# Altium integrated library KMTI-main.IntLib: 34 symbols
Pins are listed as number, name and electrical type; pins without a type are passive.

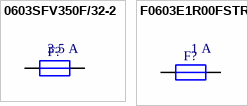
[diagram p0: symbols 0603SFV350F/32-2 to F0603E1R00FSTR]

## 0603SFV350F/32-2
designator F?  Current Rating: 3.5 A  (hidden comment: 0603SFV350F/32-2)
FUSE 0603 3.5A FAST; Manufacturer: TE Connectivity / Raychem; Description: Surface Mount Fuses 32V 3.5A GCERAM 0603; Voltage Rating DC: 32 VDC; Fuse Size / Group: 0603 (1608 metric); Fuse Type: Fast Blow; Interrupt Rating: 35 Amps; Supplier 1: Mouser; Manufacturer Part Number: 0603SFV350F/32-2; RoHS: RoHS Compliant; Category: Surface Mount Fuses; Stock 1: 16912; Pricing 1: 1=0.824, 10=0.621, 100=0.518, 250=0.505, 500=0.427, 1000=0.376, 2500=0.349, 6000=0.337, 12000=0.332 (EUR); Height: 0.51 mm; Length: 1.75 mm; Operating Temperature Range: - 55 C to + 125 C; Packaging: Reel; Product: Surface Mount Fuse; Series: SFV; Width: 0.48 mm; Brand: TE Connectivity / Raychem; Standard Pack Qty: 6000; RoHS - Mouser: Y; Minimum Order Quantity: 1; Reeling: True; ComponentLink1URL: http://www.mouser.com/ds/2/418/NG_CS_CLP00009_A_CLP00009-735180.pdf; ComponentLink1Description: http://www.mouser.com/ds/2/418/NG_CS_CLP00009_A_CLP00009-735180.pdf; Supplier Part Number 1: 650-0603SFV350F/32-2
footprint 0603R_0.45_L (Chip Resistor, 2-Leads, IPC Low Density)
footprint 0603R_0.45_M (Chip Resistor, 2-Leads, IPC Medium Density)
footprint 0603R_0.45_H (Chip Resistor, 2-Leads, IPC Hight Density)
pins: 1, 2

## F0603E1R00FSTR
designator F?  Current Rating: 1 A  (hidden comment: F0603E1R00FSTR)
FUSE 0603 1.0A FAST; Manufacturer: AVX; Description: Surface Mount Fuses 0603 1amp 0.13ohm SMD; Resistance: 0.13 Ohms; Voltage Rating DC: 32 VDC; Fuse Size / Group: 0603 (1608 metric); Fuse Type: Fast Blow; Interrupt Rating: 50 Amps; Supplier 1: Mouser; Manufacturer Part Number: F0603E1R00FSTR; RoHS: RoHS Compliant; Category: Surface Mount Fuses; Stock 1: 6505; Pricing 1: 1=0.256, 50=0.251, 100=0.208, 500=0.173, 1000=0.165, 3000=0.132, 6000=0.128, 9000=0.125 (EUR); Height: 0.63 mm; Length: 1.6 mm; Operating Temperature Range: - 55 C to + 125 C; Packaging: Reel; Product: Surface Mount Fuse; Series: F0603E; Width: 0.81 mm; Brand: AVX; Standard Pack Qty: 3000; Tradename: Accu-Guard II; RoHS - Mouser: Y; Minimum Order Quantity: 1; Reeling: True; ComponentLink1URL: http://www.mouser.com/ds/2/40/accug2-25369.pdf; ComponentLink1Description: http://www.mouser.com/ds/2/40/accug2-25369.pdf; Supplier Part Number 1: 581-F0603E1R00FSTR
footprint 0603R_0.45_L (Chip Resistor, 2-Leads, IPC Low Density)
footprint 0603R_0.45_M (Chip Resistor, 2-Leads, IPC Medium Density)
footprint 0603R_0.45_H (Chip Resistor, 2-Leads, IPC Hight Density)
pins: 1, 2


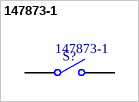
[diagram p1: symbol 147873-1]

## 147873-1
designator S?  Manufacturer Part Number: 147873-1  (hidden comment: *)
Pushbutton Switches SW TACT SMT J-LEAD 5.0MM; Manufacturer: TE Connectivity / Alcoswitch; Actuator: Rectangular; Contact Form: SPST; Current Rating: 50 mA; Illumination: None; Switch Function: OFF - (ON); Voltage Rating DC: 24 VDC; Cap Color: Brown; Life: 40000 Cycles; Supplier 1: Mouser; RoHS: RoHS Compliant; Category: Pushbutton Switches; Stock 1: 15926; Pricing 1: 1=0.302, 10=0.288, 25=0.259, 50=0.230, 100=0.220, 250=0.201, 500=0.192, 1000=0.158, 1800=0.145 (EUR); Contact Plating: Silver; Height: 5 mm; Material: Polyamide; Packaging: Reel; Termination Style: Solder Pin; Brand: TE Connectivity / Alcoswitch; Flammability Rating: UL 94 V-0; Mounting Style: SMD/SMT; Standard Pack Qty: 1800; RoHS - Mouser: Y; Minimum Order Quantity: 1; Reeling: True; ComponentLink1URL: http://www.mouser.com/ds/2/418/NG_CD_147873_K3-196492.pdf; ComponentLink1Description: http://www.mouser.com/ds/2/418/NG_CD_147873_K3-196492.pdf; Supplier Part Number 1: 506-147873-1
footprint 147873-1 (SPST TE Conectivity push button)
pins: 1 COMMON, 2 NO


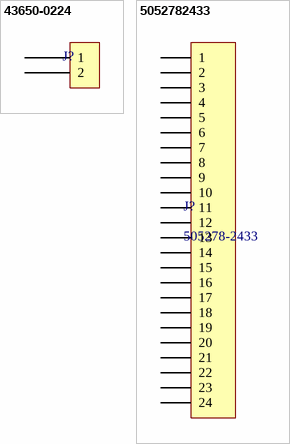
[diagram p2: symbols 43650-0224 to 5052782433]

## 43650-0224
designator J?  (value not drawn)
Headers & Wire Housings MICRO-FIT 3.0 HEADER; Manufacturer: Molex; Manufacturer Part Number: 43650-0224; Current Rating: 5 A; Mounting Angle: Vertical; Number of Positions: 2 Position; Voltage Rating: 600 V; Pitch: 3 mm; Qualification: Commercial; Supplier 1: Mouser; Supplier Part Number 1: 538-43650-0224; RoHS: RoHS Compliant; Category: Headers & Wire Housings; Stock 1: 1526; Pricing 1: 1=1.88, 10=1.69, 25=1.61, 100=1.46, 250=1.35, 500=1.15, 1000=1.07, 1800=1.02, 3600=0.999 (EUR); Accessory Type: -; Contact Plating: Tin; Contact Type: -; Housing Material: Liquid Crystal Polymer (LCP); Number of Rows: 1 Row; Packaging: Reel; Product: Headers; Series: 43650; Termination Style: SMD; Type: Power; Brand: Molex; Contact Material: Brass; Mounting Style: SMD; Row Spacing: -; Contact Gender: Pin (Male); Standard Pack Qty: 1800; Tradename: Micro-Fit 3.0; RoHS - Mouser: Y; Minimum Order Quantity: 1; Reeling: True; ComponentLink1URL: http://www.mouser.com/ds/2/276/0436500224_PCB_HEADERS-168469.pdf; ComponentLink1Description: http://www.mouser.com/ds/2/276/0436500224_PCB_HEADERS-168469.pdf
footprint 43650-0224
pins: 1, 2

## 5052782433
designator J?, comment 505278-2433
0.5 FFC ZIF BTM CONT EMBT PKG 24; Manufacturer: Molex, LLC; Manufacturer Part Number: 5052782433; Flat Flex Type: FFC, FPC; Connector/Contact Type: Contacts, Bottom; Number of Positions: 24; Pitch: 0.020" (0.50mm); FFC, FCB Thickness: 0.30mm; Locking Feature: Flip Lock; Cable End Type: Tabbed, Tapered; Actuator Material: Polyamide (PA), Nylon, Glass Filled; Voltage Rating: 50V; Material Flammability Rating: UL94 V-0; Current Rating: 0.5A; Supplier 1: Digi-Key; Supplier Part Number 1: 5052782433-ND; RoHS: RoHS Compliant; Category: Connectors, Interconnects; Stock 1: 0; Pricing 1: 3000=0.4308 (USD); Packaging: Tape & Reel (TR); Part Status: Active; Mounting Type: Surface Mount, Right Angle; Termination: Solder; Height Above Board: 0.075" (1.90mm); Contact Material: Phosphor Bronze; Contact Finish: Tin; Housing Material: Liquid Crystal Polymer (LCP), Glass Filled; Features: Solder Retention; Operating Temperature: -40°C ~ 85°C; ComponentLink1URL: http://www.molex.com/pdm_docs/sd/5052782433_sd.pdf; ComponentLink1Description: http://www.molex.com/pdm_docs/sd/5052782433_sd.pdf
footprint 505278-2433
pins: 1, 2, 3, 4, 5, 6, 7, 8, 9, 10, 11, 12, 13, 14, 15, 16, 17, 18, 19, 20, 21, 22, 23, 24


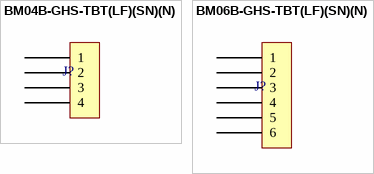
[diagram p3: symbols BM04B-GHS-TBT(LF)(SN)(N) to BM06B-GHS-TBT(LF)(SN)(N)]

## BM04B-GHS-TBT(LF)(SN)(N)
designator J?  (value not drawn)
CONN HEADER GH TOP 4POS 1.25MM; Manufacturer: JST Sales America Inc.; Manufacturer Part Number: BM04B-GHS-TBT(LF)(SN)(N); Connector Type: Header, Shrouded; Number of Positions: 4; Number of Positions Loaded: All; Pitch: 0.049" (1.25mm); Supplier 1: Digi-Key; Supplier Part Number 1: 455-1580-1-ND; RoHS: RoHS Compliant; Category: Connectors, Interconnects; Stock 1: 26095; Pricing 1: 1=0.44, 10=0.413, 100=0.3163, 500=0.27502, 1000=0.22689 (USD); Packaging: Cut Tape (CT); Contact Type: Outer Shroud Contact; Number of Rows: 1; Row Spacing: -; Contact Mating Length: -; Mounting Type: Surface Mount; Termination: Solder; Fastening Type: Locking Ramp; Features: Solder Retention; Contact Finish: Tin; Contact Finish Thickness: -; Color: Natural; ComponentLink1URL: http://www.jst-mfg.com/product/pdf/eng/eGH.pdf; ComponentLink1Description: http://www.jst-mfg.com/product/pdf/eng/eGH.pdf
footprint BM04B-GHS-TBT (Vertical)
pins: 1, 2, 3, 4

## BM06B-GHS-TBT(LF)(SN)(N)
designator J?
CONN HEADER GH TOP 6POS 1.25MM; Manufacturer: JST Sales America Inc.; Manufacturer Part Number: BM06B-GHS-TBT(LF)(SN)(N); Connector Type: Header, Shrouded; Number of Positions: 6; Number of Positions Loaded: All; Pitch: 0.049" (1.25mm); Supplier 1: Digi-Key; Supplier Part Number 1: 455-1582-1-ND; RoHS: RoHS Compliant; Category: Connectors, Interconnects; Stock 1: 150348; Pricing 1: 1=0.56, 10=0.524, 100=0.4019, 500=0.34948, 1000=0.28832 (USD); Packaging: Cut Tape (CT); Contact Type: Outer Shroud Contact; Number of Rows: 1; Row Spacing: -; Contact Mating Length: -; Mounting Type: Surface Mount; Termination: Solder; Fastening Type: Locking Ramp; Features: Solder Retention; Contact Finish: Tin; Contact Finish Thickness: -; Color: Natural; ComponentLink1URL: http://www.jst-mfg.com/product/pdf/eng/eGH.pdf; ComponentLink1Description: http://www.jst-mfg.com/product/pdf/eng/eGH.pdf
footprint BM06B-GHS-TBT (Vertical)
pins: 1, 2, 3, 4, 5, 6


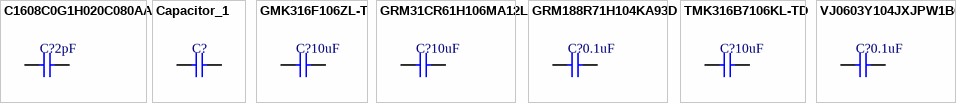
[diagram p4: symbols C1608C0G1H020C080AA to VJ0603Y104JXJPW1BC]

## C1608C0G1H020C080AA
designator C?  value 2pF  (hidden comment: *)
CAP CER 2pF 0603 50V C0G 12.5%; Manufacturer: TDK; Manufacturer Part Number: C1608C0G1H020C080AA; Description: Multilayer Ceramic Capacitors MLCC - SMD/SMT 0603 50volts 2.0pF C0G 0.25pF; Tolerance: 0.25 pF; Type: Commercial Grade MLCC; Voltage Rating DC: 50 VDC; Class: Class 1; Dielectric: C0G (NP0); Supplier 1: Mouser; Supplier Part Number 1: 810-C1608C0G1H020C; RoHS: RoHS Compliant; Category: Multilayer Ceramic Capacitors MLCC - SMD/SMT; Stock 1: 11697; Pricing 1: 1=0.262, 10=0.033, 100=0.023, 500=0.020, 1000=0.015, 4000=0.013, 8000=0.011, 24000=0.010, 48000=0.008 (EUR); Capacitance: 2 pF; Height: 0.8 mm; Length: 1.6 mm; Package/Case: 0603 (1608 metric); Packaging: Reel; Product: General Type MLCCs; Series: C; Termination Style: SMD/SMT; Width: 0.8 mm; Brand: TDK; Case Code - in: 0603; Case Code - mm: 1608; Maximum Operating Temperature: + 125 C; Minimum Operating Temperature: - 55 C; Standard Pack Qty: 4000; Termination: -; RoHS - Mouser: Y; Minimum Order Quantity: 1; Reeling: True; ComponentLink1URL: http://www.mouser.com/ds/2/400/lcc_commercial_general_en-837201.pdf; ComponentLink1Description: http://www.mouser.com/ds/2/400/lcc_commercial_general_en-837201.pdf
footprint 0603C_H (Chip Capacitor, 2-Leads, IPC Hight Density)
footprint 0603C_L (Chip Capacitor, 2-Leads, IPC Low Density)
footprint 0603C_M (Chip Capacitor, 2-Leads, IPC Medium Density)
pins: 1, 2

## Capacitor_1
designator C?  (value not drawn)
pins: 1, 2

## GMK316F106ZL-T
designator C?  value 10uF  (hidden comment: *)
CAP CER 1206 10uF 35V Y5V 20%; Manufacturer: Taiyo Yuden; Manufacturer Part Number: GMK316F106ZL-T; Description: Multilayer Ceramic Capacitors MLCC - SMD/SMT 10uF 35V Y5V +80/-20%1206STD; Tolerance: - 20 %, + 80 %; Type: Multilayer Ceramic Capacitor; Voltage Rating DC: 35 VDC; Qualification: AEC-Q200; Supplier 1: Mouser; RoHS: RoHS Compliant; Category: Multilayer Ceramic Capacitors MLCC - SMD/SMT; Stock 1: 237302; Pricing 1: 1=0.407, 10=0.182, 100=0.104, 500=0.071, 1000=0.057, 2000=0.046, 4000=0.042, 10000=0.040, 24000=0.037 (EUR); Capacitance: 10 uF; Height: 1.6 mm; Length: 3.2 mm; Package/Case: 1206 (3216 metric); Packaging: Reel; Product: General Type MLCCs; Series: M; Termination Style: SMD/SMT; Width: 1.6 mm; Brand: Taiyo Yuden; Case Code - in: 1206; Case Code - mm: 3216; Dielectric: Y5V; Maximum Operating Temperature: + 85 C; Minimum Operating Temperature: - 30 C; Standard Pack Qty: 2000; RoHS - Mouser: Y; Minimum Order Quantity: 1; Reeling: True; ComponentLink1URL: http://www.mouser.com/ds/2/396/mlcc_all_e-541559.pdf; ComponentLink1Description: http://www.mouser.com/ds/2/396/mlcc_all_e-541559.pdf; Supplier Part Number 1: 963-GMK316F106ZL-T
footprint 1206_1.6_H (Chip Capacitor, 2-Leads, IPC Hight Density)
footprint 1206_1.6_L (Chip Capacitor, 2-Leads, IPC Low Density)
footprint 1206_1.6_M (Chip Capacitor, 2-Leads, IPC Medium Density)
pins: 1, 2

## GRM31CR61H106MA12L
designator C?  value 10uF  (hidden comment: *)
CAP CER 1206 10uF 50V X5R 20%; Manufacturer: Murata Electronics; Manufacturer Part Number: GRM31CR61H106MA12L; Description: Multilayer Ceramic Capacitors MLCC - SMD/SMT 1206 10uF 50volts X5R 20%; Type: General Purpose Ceramic Capacitors; Voltage Rating DC: 50 VDC; Class: Class 2; Product Status: New Product; Supplier 1: Mouser; Supplier Part Number 1: 81-GRM31CR61H106MA2L; RoHS: RoHS Compliant; Category: Multilayer Ceramic Capacitors MLCC - SMD/SMT; Stock 1: 0; Pricing 1: 1=0.308, 10=0.168, 100=0.110, 500=0.100, 1000=0.091, 2000=0.063, 10000=0.062, 24000=0.060, 50000=0.053 (EUR); Capacitance: 10 uF; Height: 1.6 mm; Length: 3.2 mm; Package/Case: 1206 (3216 metric); Packaging: Reel; Product: General Type MLCCs; Series: GRM; Termination Style: SMD/SMT; Tolerance: 20 %; Width: 1.6 mm; Brand: Murata Electronics; Case Code - in: 1206; Case Code - mm: 3216; Dielectric: X5R; Maximum Operating Temperature: + 85 C; Minimum Operating Temperature: - 55 C; Standard Pack Qty: 2000; RoHS - Mouser: Y; Minimum Order Quantity: 1; Reeling: True; ComponentLink1URL: http://www.mouser.com/ds/2/281/c02e-2905.pdf; ComponentLink1Description: http://www.mouser.com/ds/2/281/c02e-2905.pdf
footprint 1206_1.6_L (Chip Capacitor, 2-Leads, IPC Low Density)
footprint 1206_1.6_H (Chip Capacitor, 2-Leads, IPC Hight Density)
footprint 1206_1.6_M (Chip Capacitor, 2-Leads, IPC Medium Density)
pins: 1, 2

## GRM188R71H104KA93D
designator C?  value 0.1uF  (hidden comment: *)
CAP CER 0603 0.1uF 50V X7R 10%; Manufacturer: Murata Electronics; Manufacturer Part Number: GRM188R71H104KA93D; Description: Multilayer Ceramic Capacitors MLCC - SMD/SMT 0603 0.1uF 50volts X7R 10%; Type: General Purpose MLCC; Voltage Rating DC: 50 VDC; Qualification: Commercial; Supplier 1: Mouser; Supplier Part Number 1: 81-GRM39X104K50D; RoHS: RoHS Compliant; Category: Multilayer Ceramic Capacitors MLCC - SMD/SMT; Stock 1: 1630978; Pricing 1: 1=0.091, 10=0.019, 100=0.013, 500=0.011, 1000=0.008, 4000=0.008 (EUR); Capacitance: 0.1 uF; Height: 0.8 mm; Length: 1.6 mm; Package/Case: 0603 (1608 metric); Packaging: Reel; Product: General Type MLCCs; Series: GRM; Termination Style: SMD/SMT; Tolerance: 10 %; Width: 0.8 mm; Brand: Murata Electronics; Case Code - in: 0603; Case Code - mm: 1608; Dielectric: X7R; Maximum Operating Temperature: + 125 C; Minimum Operating Temperature: - 55 C; Standard Pack Qty: 4000; RoHS - Mouser: Y; Minimum Order Quantity: 1; Reeling: True; ComponentLink1URL: http://www.mouser.com/ds/2/281/c02e-2905.pdf; ComponentLink1Description: http://www.mouser.com/ds/2/281/c02e-2905.pdf
footprint 0603C_L (Chip Capacitor, 2-Leads, IPC Low Density)
footprint 0603C_H (Chip Capacitor, 2-Leads, IPC Hight Density)
footprint 0603C_M (Chip Capacitor, 2-Leads, IPC Medium Density)
pins: 1, 2

## TMK316B7106KL-TD
designator C?  value 10uF  (hidden comment: *)
CAP CER 1206 10uF 25V X7R 10%; Manufacturer: Taiyo Yuden; Manufacturer Part Number: TMK316B7106KL-TD; Description: Multilayer Ceramic Capacitors MLCC - SMD/SMT 10uF 25V X7R +/-10%1206STD; Type: Multilayer Ceramic Capacitor; Voltage Rating DC: 25 VDC; Qualification: AEC-Q200; Supplier 1: Mouser; Supplier Part Number 1: 963-TMK316B7106KL-TD; RoHS: RoHS Compliant; Category: Multilayer Ceramic Capacitors MLCC - SMD/SMT; Stock 1: 113143; Pricing 1: 1=0.434, 10=0.230, 100=0.135, 500=0.105, 1000=0.082, 2000=0.063, 4000=0.059, 10000=0.055, 24000=0.052 (EUR); Capacitance: 10 uF; Height: 1.6 mm; Length: 3.2 mm; Package/Case: 1206 (3216 metric); Packaging: Reel; Product: General Type MLCCs; Series: M; Termination Style: SMD/SMT; Tolerance: 10 %; Width: 1.6 mm; Brand: Taiyo Yuden; Case Code - in: 1206; Case Code - mm: 3216; Dielectric: X7R; Maximum Operating Temperature: + 125 C; Minimum Operating Temperature: - 55 C; Standard Pack Qty: 2000; RoHS - Mouser: Y; Minimum Order Quantity: 1; Reeling: True; ComponentLink1URL: http://www.mouser.com/ds/2/396/mlcc_all_e-541559.pdf; ComponentLink1Description: http://www.mouser.com/ds/2/396/mlcc_all_e-541559.pdf
footprint 1206_1.6_L (Chip Capacitor, 2-Leads, IPC Low Density)
footprint 1206_1.6_H (Chip Capacitor, 2-Leads, IPC Hight Density)
footprint 1206_1.6_M (Chip Capacitor, 2-Leads, IPC Medium Density)
pins: 1, 2

## VJ0603Y104JXJPW1BC
designator C?  value 0.1uF  (hidden comment: *)
CAP CER 0603 0.1uF 16V X7R 5%; Manufacturer: Vishay / Vitramon; Manufacturer Part Number: VJ0603Y104JXJPW1BC; Type: Ultra Small Commodity MLCCs; Voltage Rating DC: 16 VDC; Supplier 1: Mouser; RoHS: RoHS Compliant; Category: Multilayer Ceramic Capacitors MLCC - SMD/SMT; Stock 1: 30210; Pricing 1: 1=0.091, 50=0.022, 100=0.017, 500=0.015, 1000=0.014, 15000=0.011, 75000=0.010 (EUR); Height: 0.95 mm; Length: 1.6 mm; Package/Case: 0603 (1608 metric); Packaging: Reel; Product: General Type MLCCs; Series: VJ W1BC; Termination Style: SMD/SMT; Tolerance: 5 %; Voltage Rating AC: -; Width: 0.8 mm; Brand: Vishay / Vitramon; Case Code - in: 0603; Case Code - mm: 1608; Dielectric: X7R; Maximum Operating Temperature: + 125 C; Minimum Operating Temperature: - 55 C; Standard Pack Qty: 15000; RoHS - Mouser: Y; Minimum Order Quantity: 1; Reeling: True; ComponentLink1URL: http://www.mouser.com/ds/2/427/vjw1bcbascomseries-223529.pdf; ComponentLink1Description: http://www.mouser.com/ds/2/427/vjw1bcbascomseries-223529.pdf; Supplier Part Number 1: 77-VJ0603Y104JXJPBC; Capacitance: 0.1 uF
footprint 0603C_M (Chip Capacitor, 2-Leads, IPC Medium Density)
footprint 0603C_L (Chip Capacitor, 2-Leads, IPC Low Density)
footprint 0603C_H (Chip Capacitor, 2-Leads, IPC Hight Density)
pins: 1, 2


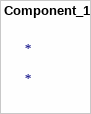
[diagram p5: symbol Component_1]

## Component_1
designator *


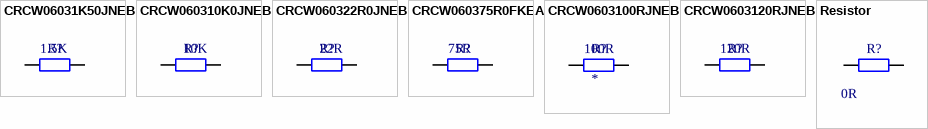
[diagram p6: symbols CRCW06031K50JNEB to Resistor]

## CRCW06031K50JNEB
designator R?  value 1.5K  (hidden comment: *)
RES 0603 1.5K 5% 100mW; Manufacturer: Vishay / Dale; Manufacturer Part Number: CRCW06031K50JNEB; Resistance: 1.5 kOhms; Temperature Coefficient: 200 PPM / K; Voltage Rating: 75 V; Qualification: Commercial; Supplier 1: Mouser; Supplier Part Number 1: 71-CRCW06031K50JNEB; RoHS: RoHS Compliant By Exemption; Category: Thick Film Resistors - SMD; Stock 1: 35392; Pricing 1: 1=0.091, 10=0.009, 100=0.007, 10000=0.003, 30000=0.002 (EUR); Height: 0.45 mm; Length: 1.55 mm; Operating Temperature Range: - 55 C to + 155 C; Package/Case: 0603 (1608 metric); Packaging: Reel; Power Rating: 100 mW; Product: Thick Film Resistors SMD; Series: CRCW; Termination Style: SMD/SMT; Tolerance: 5 %; Width: 0.85 mm; Brand: Vishay / Dale; Case Code - in: 0603; Case Code - mm: 1608; Standard Pack Qty: 10000; RoHS - Mouser: E; Minimum Order Quantity: 1; Reeling: True; ComponentLink1URL: http://www.mouser.com/ds/2/427/dcrcwe3-109170.pdf; ComponentLink1Description: http://www.mouser.com/ds/2/427/dcrcwe3-109170.pdf
footprint 0603R_0.45_L (Chip Resistor, 2-Leads, IPC Low Density)
footprint 0603R_0.45_M (Chip Resistor, 2-Leads, IPC Medium Density)
footprint 0603R_0.45_H (Chip Resistor, 2-Leads, IPC Hight Density)
pins: 1, 2

## CRCW060310K0JNEB
designator R?  value 10K  (hidden comment: *)
RES 0603 10K 5% 100mW; Manufacturer: Vishay / Dale; Manufacturer Part Number: CRCW060310K0JNEB; Resistance: 10 kOhms; Temperature Coefficient: 200 PPM / K; Voltage Rating: 75 V; Qualification: Commercial; Supplier 1: Mouser; Supplier Part Number 1: 71-CRCW060310K0JNEB; RoHS: RoHS Compliant By Exemption; Category: Thick Film Resistors - SMD; Stock 1: 23952; Pricing 1: 1=0.091, 10=0.009, 100=0.007, 10000=0.003, 30000=0.002 (EUR); Height: 0.45 mm; Length: 1.55 mm; Operating Temperature Range: - 55 C to + 155 C; Package/Case: 0603 (1608 metric); Packaging: Reel; Power Rating: 100 mW; Product: Thick Film Resistors SMD; Series: CRCW; Termination Style: SMD/SMT; Tolerance: 5 %; Width: 0.85 mm; Brand: Vishay / Dale; Case Code - in: 0603; Case Code - mm: 1608; Standard Pack Qty: 10000; RoHS - Mouser: E; Minimum Order Quantity: 1; Reeling: True; ComponentLink1URL: http://www.mouser.com/ds/2/427/dcrcwe3-109170.pdf; ComponentLink1Description: http://www.mouser.com/ds/2/427/dcrcwe3-109170.pdf
footprint 0603R_0.45_L (Chip Resistor, 2-Leads, IPC Low Density)
footprint 0603R_0.45_M (Chip Resistor, 2-Leads, IPC Medium Density)
footprint 0603R_0.45_H (Chip Resistor, 2-Leads, IPC Hight Density)
pins: 1, 2

## CRCW060322R0JNEB
designator R?  value 22R  (hidden comment: *)
RES 0603 22R 5% 100mW; Manufacturer: Vishay / Dale; Manufacturer Part Number: CRCW060322R0JNEB; Resistance: 22 Ohms; Temperature Coefficient: 200 PPM / K; Voltage Rating: 75 V; Qualification: Commercial; Supplier 1: Mouser; Supplier Part Number 1: 71-CRCW060322R0JNEB; RoHS: RoHS Compliant By Exemption; Category: Thick Film Resistors - SMD; Stock 1: 41125; Pricing 1: 1=0.091, 10=0.011, 100=0.008, 10000=0.004, 30000=0.002 (EUR); Height: 0.45 mm; Length: 1.55 mm; Operating Temperature Range: - 55 C to + 155 C; Package/Case: 0603 (1608 metric); Packaging: Reel; Power Rating: 100 mW; Product: Thick Film Resistors SMD; Series: CRCW; Termination Style: SMD/SMT; Tolerance: 5 %; Width: 0.85 mm; Brand: Vishay / Dale; Case Code - in: 0603; Case Code - mm: 1608; Standard Pack Qty: 10000; RoHS - Mouser: E; Minimum Order Quantity: 1; Reeling: True; ComponentLink1URL: http://www.mouser.com/ds/2/427/dcrcwe3-109170.pdf; ComponentLink1Description: http://www.mouser.com/ds/2/427/dcrcwe3-109170.pdf
footprint 0603R_0.45_L (Chip Resistor, 2-Leads, IPC Low Density)
footprint 0603R_0.45_M (Chip Resistor, 2-Leads, IPC Medium Density)
footprint 0603R_0.45_H (Chip Resistor, 2-Leads, IPC Hight Density)
pins: 1, 2

## CRCW060375R0FKEA
designator R?  value 75R  (hidden comment: CRCW060375R0FKEA)
RES SMD 75 OHM 1% 1/10W 0603; Manufacturer: Vishay Dale; Resistance (Ohms): 75; Power (Watts): 0.1W, 1/10W; Temperature Coefficient: ±100ppm/°C; Supplier 1: Digi-Key; Supplier Part Number 1: 541-75.0HCT-ND; Manufacturer Part Number: CRCW060375R0FKEA; RoHS: RoHS Compliant; Category: Resistors; Stock 1: 102359; Pricing 1: 1=0.1, 10=0.03, 25=0.022, 50=0.0168, 100=0.0123, 250=0.0094, 500=0.00752, 1000=0.00554, 2500=0.00481 (USD); Packaging: Cut Tape (CT); Part Status: Active; Tolerance: ±1%; Composition: Thick Film; Features: Automotive AEC-Q200; Operating Temperature: -55°C ~ 155°C; Package / Case: 0603 (1608 Metric); Supplier Device Package: 0603; Size / Dimension: 0.063" L x 0.033" W (1.60mm x 0.85mm); Height - Seated (Max): 0.020" (0.50mm); Number of Terminations: 2; Failure Rate: -; ComponentLink1URL: http://www.vishay.com/docs/20035/dcrcwe3.pdf; ComponentLink1Description: http://www.vishay.com/docs/20035/dcrcwe3.pdf
footprint 0603R_0.45_L (Chip Resistor, 2-Leads, IPC Low Density)
footprint 0603R_0.45_M (Chip Resistor, 2-Leads, IPC Medium Density)
footprint 0603R_0.45_H (Chip Resistor, 2-Leads, IPC Hight Density)
pins: 1, 2

## CRCW0603100RJNEB
designator R?  value 100R
RES 0603 100R 5% 100mW; Manufacturer: Vishay / Dale; Manufacturer Part Number: CRCW0603100RJNEB; Resistance: 100 Ohms; Temperature Coefficient: 200 PPM / K; Voltage Rating: 75 V; Qualification: Commercial; Supplier 1: Mouser; Supplier Part Number 1: 71-CRCW0603100RJNEB; RoHS: RoHS Compliant By Exemption; Category: Thick Film Resistors - SMD; Stock 1: 27634; Pricing 1: 1=0.091, 10=0.009, 100=0.007, 1000=0.005, 10000=0.003, 30000=0.002 (EUR); Height: 0.45 mm; Length: 1.55 mm; Operating Temperature Range: - 55 C to + 155 C; Package/Case: 0603 (1608 metric); Packaging: Reel; Power Rating: 100 mW; Product: Thick Film Resistors SMD; Series: CRCW; Termination Style: SMD/SMT; Tolerance: 5 %; Width: 0.85 mm; Brand: Vishay / Dale; Case Code - in: 0603; Case Code - mm: 1608; Standard Pack Qty: 10000; RoHS - Mouser: E; Minimum Order Quantity: 1; Reeling: True; ComponentLink1URL: http://www.mouser.com/ds/2/427/dcrcwe3-109170.pdf; ComponentLink1Description: http://www.mouser.com/ds/2/427/dcrcwe3-109170.pdf
footprint 0603R_0.45_L (Chip Resistor, 2-Leads, IPC Low Density)
footprint 0603R_0.45_M (Chip Resistor, 2-Leads, IPC Medium Density)
footprint 0603R_0.45_H (Chip Resistor, 2-Leads, IPC Hight Density)
pins: 1, 2

## CRCW0603120RJNEB
designator R?  value 120R  (hidden comment: *)
RES 0603 120R 5% 100mW; Manufacturer: Vishay / Dale; Manufacturer Part Number: CRCW0603120RJNEB; Resistance: 120 Ohms; Temperature Coefficient: 200 PPM / K; Voltage Rating: 75 V; Qualification: Commercial; Supplier 1: Mouser; Supplier Part Number 1: 71-CRCW0603120RJNEB; RoHS: RoHS Compliant By Exemption; Category: Thick Film Resistors - SMD; Stock 1: 61795; Pricing 1: 1=0.091, 10=0.009, 100=0.007, 10000=0.003, 30000=0.002 (EUR); Height: 0.45 mm; Length: 1.55 mm; Operating Temperature Range: - 55 C to + 155 C; Package/Case: 0603 (1608 metric); Packaging: Reel; Power Rating: 100 mW; Product: Thick Film Resistors SMD; Series: CRCW; Termination Style: SMD/SMT; Tolerance: 5 %; Width: 0.85 mm; Brand: Vishay / Dale; Case Code - in: 0603; Case Code - mm: 1608; Standard Pack Qty: 10000; RoHS - Mouser: E; Minimum Order Quantity: 1; Reeling: True; ComponentLink1URL: http://www.mouser.com/ds/2/427/dcrcwe3-109170.pdf; ComponentLink1Description: http://www.mouser.com/ds/2/427/dcrcwe3-109170.pdf
footprint 0603R_0.45_L (Chip Resistor, 2-Leads, IPC Low Density)
footprint 0603R_0.45_M (Chip Resistor, 2-Leads, IPC Medium Density)
footprint 0603R_0.45_H (Chip Resistor, 2-Leads, IPC Hight Density)
pins: 1, 2

## Resistor
designator R?, comment value 0R  (hidden comment: Generic resitor)
footprint 0603R_0.45_L (Chip Resistor, 2-Leads, IPC Low Density)
footprint 0603R_0.45_M (Chip Resistor, 2-Leads, IPC Medium Density)
footprint 0603R_0.45_H (Chip Resistor, 2-Leads, IPC Hight Density)
pins: 1, 2


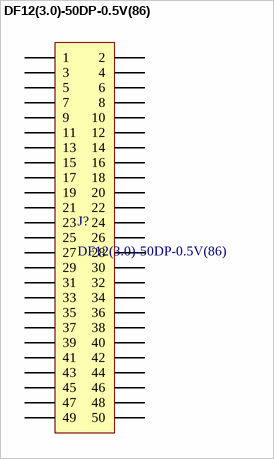
[diagram p7: symbol DF12(3.0)-50DP-0.5V(86)]

## DF12(3.0)-50DP-0.5V(86)
designator J?
Board to Board & Mezzanine Connectors 50P V SMT DR HDR 3.0MM STACK HT GOLD; Manufacturer: Hirose Connector; Current Rating: 300 mA; Mounting Angle: Vertical; Number of Positions: 50 Position; Voltage Rating: 50 V; Pitch: 0.5 mm; Stack Height: 3 mm; Supplier 1: Mouser; Supplier Part Number 1: 798-DF123050DP0.5V86; Manufacturer Part Number: DF12(3.0)-50DP-0.5V(86); RoHS: RoHS Compliant; Category: Board to Board & Mezzanine Connectors; Stock 1: 3370; Pricing 1: 1=1.50, 10=1.22, 100=1.17, 250=1.06, 500=0.968, 1000=0.836, 2000=0.710, 5000=0.674, 10000=0.659 (EUR); Contact Plating: Gold; Number of Rows: 2 Row; Packaging: Reel; Product: Headers; Series: DF12; Termination Style: SMD; Brand: Hirose Connector; Contact Material: Phosphor Copper; Standard Pack Qty: 1000; RoHS - Mouser: Y; Minimum Order Quantity: 1; Reeling: True; ComponentLink1URL: http://www.mouser.com/ds/2/185/DF12_catalog-938983.pdf; ComponentLink1Description: http://www.mouser.com/ds/2/185/DF12_catalog-938983.pdf
footprint DF12(3.0)-50DP-0.5V(86) (Board-to-board)
pins: 1, 2, 3, 4, 5, 6, 7, 8, 9, 10, 11, 12, 13, 14, 15, 16, 17, 18, 19, 20, 21, 22, 23, 24, 25, 26, 27, 28, 29, 30, 31, 32, 33, 34, 35, 36, 37, 38, 39, 40, 41, 42, 43, 44, 45, 46, 47, 48, 49, 50


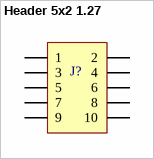
[diagram p8: symbol Header 5x2 1.27]

## Header 5x2 1.27
designator J?  (value not drawn)
footprint 2x5 Header 1.27mm
pins: 1, 2, 3, 4, 5, 6, 7, 8, 9, 10


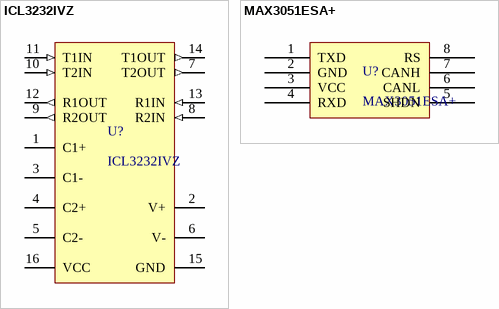
[diagram p9: symbols ICL3232IVZ to MAX3051ESA+]

## ICL3232IVZ
designator U?
RS-232 Interface IC RS232 3V 2D/2R IND; Manufacturer: Intersil; Data Rate: 500 kb/s; Function: Transceiver; Number of Drivers: 2 Driver; Number of Receivers: 2 Receiver; Operating Supply Current: 1 mA; Operating Supply Voltage: 3.3 V, 5 V; Receiver Signal Type: Single-Ended; Supply Voltage - Max: 5.5 V; Supplier 1: Mouser; Supplier Part Number 1: 968-ICL3232IVZ; Manufacturer Part Number: ICL3232IVZ; RoHS: RoHS Compliant; Category: RS-232 Interface IC; Stock 1: 2546; Pricing 1: 1=1.42, 10=1.21, 100=0.969, 500=0.849, 1000=0.702, 2500=0.652, 5000=0.628, 10000=0.610 (EUR); Package/Case: TSSOP-16; Packaging: Tube; Product: RS-232 Transceivers; Series: ICL3232; Brand: Intersil; Mounting Style: SMD/SMT; Maximum Operating Temperature: + 85 C; Minimum Operating Temperature: - 40 C; Protocol Supported: RS-232; Standard Pack Qty: 96; Supply Voltage - Min: 3 V; RoHS - Mouser: Y; Minimum Order Quantity: 1; Reeling: False; ComponentLink1URL: http://www.mouser.com/ds/2/465/icl3221-22-23-32-41-43-555317.pdf; ComponentLink1Description: http://www.mouser.com/ds/2/465/icl3221-22-23-32-41-43-555317.pdf
footprint TSSOP16_L (TSOP, 16-Leads, Body 5,00x4,40mm, Pitch 0,65mm, IPC Low Density)
footprint TSSOP16_M (TSOP, 16-Leads, Body 5,00x4,40mm, Pitch 0,65mm, IPC Medium Density)
footprint TSSOP16_H (TSOP, 16-Leads, Body 5,00x4,40mm, Pitch 0,65mm, IPC High Density)
pins: 1 C1+, 2 V+ (power), 3 C1-, 4 C2+, 5 C2-, 6 V- (power), 7 T2OUT (out), 8 R2IN (in), 9 R2OUT (out), 10 T2IN (in), 11 T1IN (in), 12 R1OUT (out), 13 R1IN (in), 14 T1OUT (out), 15 GND (power), 16 VCC (power)

## MAX3051ESA+
designator U?
CAN Interface IC 3.3V 1Mbps Transceiver; Manufacturer: Maxim Integrated; Operating Supply Current: 35 mA; Supply Voltage - Max: 3.465 V; Supply Voltage - Min: 3.135 V; Supplier 1: Mouser; Supplier Part Number 1: 700-MAX3051ESA; Manufacturer Part Number: MAX3051ESA+; RoHS: RoHS Compliant; Category: CAN Interface IC; Stock 1: 1199; Pricing 1: 1=1.65, 10=1.56, 25=1.46, 50=1.42 (EUR); Package/Case: SOIC-8; Packaging: Tube; Product: CAN Transceivers; Series: MAX3051; Type: CAN Transceiver; Brand: Maxim Integrated; Mounting Style: SMD/SMT; Maximum Operating Temperature: + 85 C; Minimum Operating Temperature: - 40 C; Operating Supply Voltage: 3.3 V; Standard Pack Qty: 100; RoHS - Mouser: Y; Minimum Order Quantity: 1; Reeling: False; ComponentLink1URL: http://www.mouser.com/ds/2/256/MAX3051-74908.pdf; ComponentLink1Description: http://www.mouser.com/ds/2/256/MAX3051-74908.pdf
footprint SOIC8_L (SOIC 8-leads IPC Low density)
footprint SOIC8_M (SOIC 8-leads IPC Medium density)
footprint SOIC8_H (SOIC 8-leads IPC High density)
pins: 1 TXD, 2 GND, 3 VCC, 4 RXD, 5 SHDN, 6 CANL, 7 CANH, 8 RS


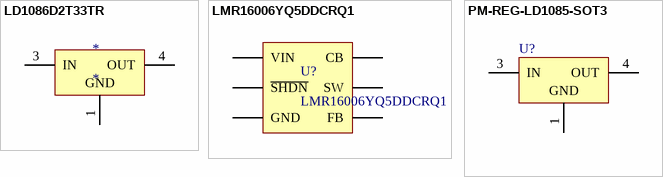
[diagram p10: symbols LD1086D2T33TR to PM-REG-LD1085-SOT3]

## LD1086D2T33TR
designator *
LDO Voltage Regulators 3.3V 1.5A Positive; Manufacturer: STMicroelectronics; Manufacturer Part Number: LD1086D2T33TR; Input Voltage MAX: 30 V; Number of Outputs: 1 Output; Output Type: Fixed; Quiescent Current: 10 mA; Dropout Voltage - Max: 1.5 V at 1.5 A; Voltage Regulation Accuracy: 1 %; Dropout Voltage: 1.3 V at 1.5 A; Ib - Input Bias Current: 5 mA; Line Regulation: 6 mV; Load Regulation: 10 mV; Supplier 1: Mouser; Supplier Part Number 1: 511-LD1086D2T33-TR; RoHS: RoHS Compliant; Category: LDO Voltage Regulators; Stock 1: 1943; Pricing 1: 1=0.887, 10=0.714, 100=0.548, 500=0.485, 1000=0.383, 2000=0.339, 10000=0.326 (EUR); Output Current: 1.5 A; Output Voltage: 3.3 V; Package/Case: D2PAK-3; Packaging: Reel; Series: LD1086D2T; Brand: STMicroelectronics; Mounting Style: SMD/SMT; Maximum Operating Temperature: + 125 C; Minimum Operating Temperature: - 40 C; Standard Pack Qty: 1000; RoHS - Mouser: Y; Minimum Order Quantity: 1; Reeling: True; ComponentLink1URL: http://www.mouser.com/ds/2/389/CD00001884-310754.pdf; ComponentLink1Description: http://www.mouser.com/ds/2/389/CD00001884-310754.pdf
footprint D2PAK (D2-PAK, 4-Leads, Body 9.2x10.2mm, Pitch 2.54mm, Lead Span 15.4mm, IPC Low Density)
pins: 1 GND (power), 3 IN (power), 4 OUT (power)

## LMR16006YQ5DDCRQ1
designator U?
IC REG BUCK 5V 0.6A 6SOT; Manufacturer: Texas Instruments; Function: Step-Down; Output Configuration: Positive; Output Type: Fixed; Number of Outputs: 1; Voltage - Input (Min): 4V; Voltage - Input (Max): 40V; Current - Output: 600mA; Frequency - Switching: 2.1MHz; Synchronous Rectifier: No; Supplier 1: Digi-Key; Supplier Part Number 1: 296-42515-1-ND; Manufacturer Part Number: LMR16006YQ5DDCRQ1; RoHS: RoHS Compliant; Category: Integrated Circuits (ICs); Stock 1: 2026; Pricing 1: 1=3.48, 10=3.121, 100=2.5607, 500=2.17854, 1000=1.5925 (USD); Packaging: Cut Tape (CT); Part Status: Active; Topology: Buck; Voltage - Output (Min/Fixed): 5V; Voltage - Output (Max): -; Operating Temperature: -40°C ~ 125°C (TJ); Mounting Type: Surface Mount; Package / Case: SOT-23-6 Thin, TSOT-23-6; Supplier Device Package: 6-SOT; ComponentLink1URL: http://www.ti.com/lit/ds/symlink/lmr16006y-q1.pdf; ComponentLink1Description: http://www.ti.com/lit/ds/symlink/lmr16006y-q1.pdf
footprint SOT95P280X110-6M (SOT23, 6-Leads, Body 2,90x2,80mm, Pitch 0,95mm, IPC Low Density)
footprint SOT95P280X110-6N (SOT23, 6-Leads, Body 2,90x2,80mm, Pitch 0,95mm, IPC Medium Density)
footprint SOT95P280X110-6L (SOT23, 6-Leads, Body 2,90x2,80mm, Pitch 0,95mm, IPC High Density)
pins: 1 CB, 2 GND, 3 FB, 4 ~{SHDN}, 5 VIN, 6 SW

## PM-REG-LD1085-SOT3
designator U?
pins: 1 GND (power), 3 IN (power), 4 OUT (power)


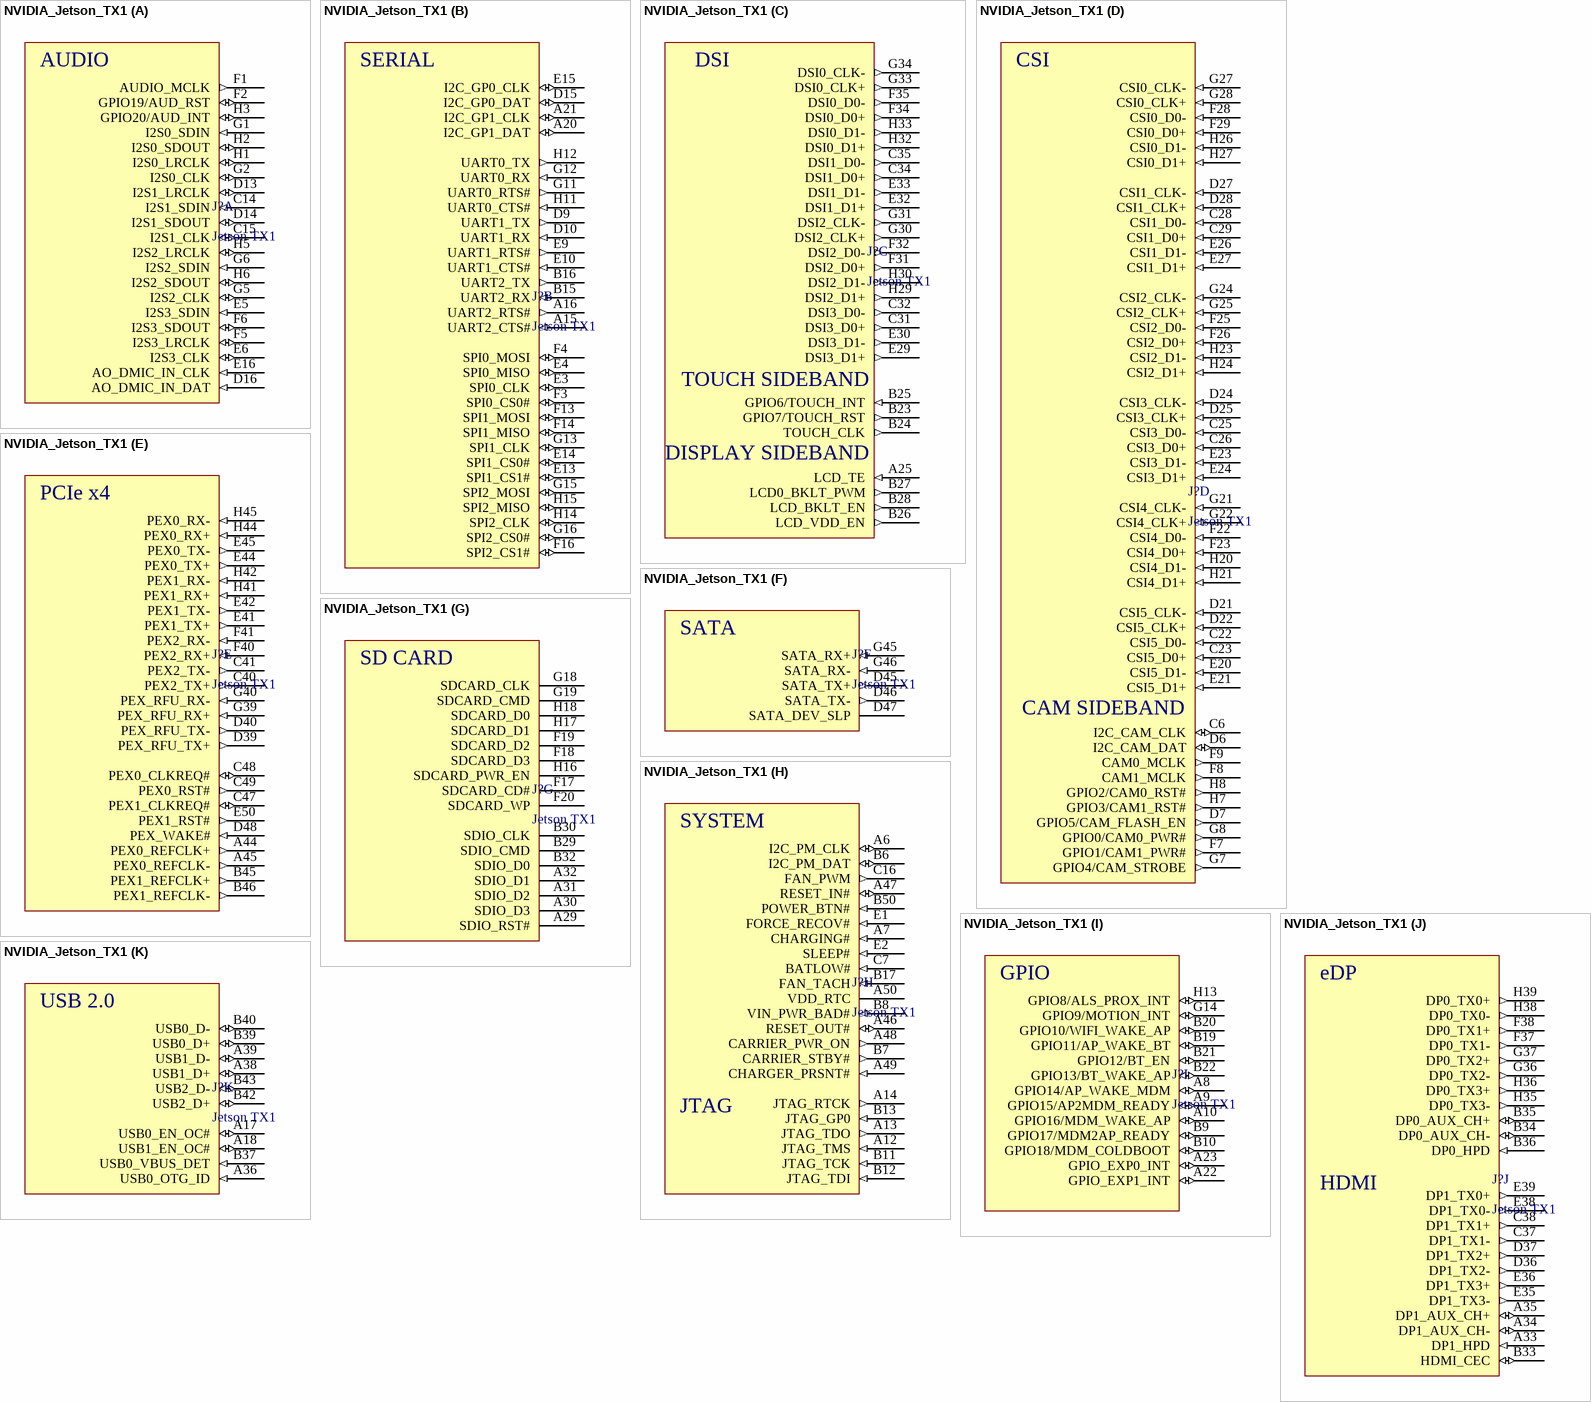
[diagram p11: symbol NVIDIA_Jetson_TX1]

## NVIDIA_Jetson_TX1
designator J?, comment Jetson TX1
Nvidia computing module
part A pins: C14 I2S1_SDIN (in), C15 I2S1_CLK (io), D13 I2S1_LRCLK (io), D14 I2S1_SDOUT (io), D16 AO_DMIC_IN_DAT (in), E5 I2S3_SDIN (in), E6 I2S3_CLK (io), E16 AO_DMIC_IN_CLK (in), F1 AUDIO_MCLK (out), F2 GPIO19/AUD_RST (io), F5 I2S3_LRCLK (io), F6 I2S3_SDOUT (io), G1 I2S0_SDIN (in), G2 I2S0_CLK (io), G5 I2S2_CLK (io), G6 I2S2_SDIN (in), H1 I2S0_LRCLK (io), H2 I2S0_SDOUT (io), H3 GPIO20/AUD_INT (io), H5 I2S2_LRCLK (io), H6 I2S2_SDOUT (io)
part B pins: A15 UART2_CTS# (in), A16 UART2_RTS# (out), A20 I2C_GP1_DAT (io), A21 I2C_GP1_CLK (io), B15 UART2_RX (in), B16 UART2_TX (out), D9 UART1_TX (out), D10 UART1_RX (in), D15 I2C_GP0_DAT (io), E3 SPI0_CLK (io), E4 SPI0_MISO (io), E9 UART1_RTS# (out), E10 UART1_CTS# (in), E13 SPI1_CS1# (io), E14 SPI1_CS0# (io), E15 I2C_GP0_CLK (io), F3 SPI0_CS0# (io), F4 SPI0_MOSI (io), F13 SPI1_MOSI (io), F14 SPI1_MISO (io), F16 SPI2_CS1# (io), G11 UART0_RTS# (out), G12 UART0_RX (in), G13 SPI1_CLK (io), G15 SPI2_MOSI (io), G16 SPI2_CS0# (io), H11 UART0_CTS# (in), H12 UART0_TX (out), H14 SPI2_CLK (io), H15 SPI2_MISO (io)
part C pins: A25 LCD_TE (in), B23 GPIO7/TOUCH_RST (out), B24 TOUCH_CLK (out), B25 GPIO6/TOUCH_INT (in), B26 LCD_VDD_EN (out), B27 LCD0_BKLT_PWM (out), B28 LCD_BKLT_EN (out), C31 DSI3_D0+ (out), C32 DSI3_D0- (out), C34 DSI1_D0+ (out), C35 DSI1_D0- (out), E29 DSI3_D1+ (out), E30 DSI3_D1- (out), E32 DSI1_D1+ (out), E33 DSI1_D1- (out), F31 DSI2_D0+ (out), F32 DSI2_D0- (out), F34 DSI0_D0+ (out), F35 DSI0_D0- (out), G30 DSI2_CLK+ (out), G31 DSI2_CLK- (out), G33 DSI0_CLK+ (out), G34 DSI0_CLK- (out), H29 DSI2_D1+ (out), H30 DSI2_D1- (out), H32 DSI0_D1+ (out), H33 DSI0_D1- (out)
part D pins: C6 I2C_CAM_CLK (io), C22 CSI5_D0- (in), C23 CSI5_D0+ (in), C25 CSI3_D0- (in), C26 CSI3_D0+ (in), C28 CSI1_D0- (in), C29 CSI1_D0+ (in), D6 I2C_CAM_DAT (io), D7 GPIO5/CAM_FLASH_EN (out), D21 CSI5_CLK- (in), D22 CSI5_CLK+ (in), D24 CSI3_CLK- (in), D25 CSI3_CLK+ (in), D27 CSI1_CLK- (in), D28 CSI1_CLK+ (in), E20 CSI5_D1- (in), E21 CSI5_D1+ (in), E23 CSI3_D1- (in), E24 CSI3_D1+ (in), E26 CSI1_D1- (in), E27 CSI1_D1+ (in), F7 GPIO1/CAM1_PWR# (out), F8 CAM1_MCLK (out), F9 CAM0_MCLK (out), F22 CSI4_D0- (in), F23 CSI4_D0+ (in), F25 CSI2_D0- (in), F26 CSI2_D0+ (in), F28 CSI0_D0- (in), F29 CSI0_D0+ (in), G7 GPIO4/CAM_STROBE (out), G8 GPIO0/CAM0_PWR# (out), G21 CSI4_CLK- (in), G22 CSI4_CLK+ (in), G24 CSI2_CLK- (in), G25 CSI2_CLK+ (in), G27 CSI0_CLK- (in), G28 CSI0_CLK+ (in), H7 GPIO3/CAM1_RST# (out), H8 GPIO2/CAM0_RST# (out), H20 CSI4_D1- (in), H21 CSI4_D1+ (in), H23 CSI2_D1- (in), H24 CSI2_D1+ (in), H26 CSI0_D1- (in), H27 CSI0_D1+ (in)
part E pins: A44 PEX0_REFCLK+ (out), A45 PEX0_REFCLK- (out), B45 PEX1_REFCLK+ (out), B46 PEX1_REFCLK- (out), C40 PEX2_TX+ (out), C41 PEX2_TX- (out), C47 PEX1_CLKREQ# (io), C48 PEX0_CLKREQ# (io), C49 PEX0_RST# (out), D39 PEX_RFU_TX+ (out), D40 PEX_RFU_TX- (out), D48 PEX_WAKE# (in), E41 PEX1_TX+ (out), E42 PEX1_TX- (out), E44 PEX0_TX+ (out), E45 PEX0_TX- (out), E50 PEX1_RST# (out), F40 PEX2_RX+ (in), F41 PEX2_RX- (in), G39 PEX_RFU_RX+ (in), G40 PEX_RFU_RX- (in), H41 PEX1_RX+ (in), H42 PEX1_RX- (in), H44 PEX0_RX+ (in), H45 PEX0_RX- (in)
part F pins: D45 SATA_TX+ (out), D46 SATA_TX- (out), D47 SATA_DEV_SLP, G45 SATA_RX+ (in), G46 SATA_RX- (in)
part G pins: A29 SDIO_RST#, A30 SDIO_D3, A31 SDIO_D2, A32 SDIO_D1, B29 SDIO_CMD, B30 SDIO_CLK, B32 SDIO_D0, F17 SDCARD_CD#, F18 SDCARD_D3, F19 SDCARD_D2, F20 SDCARD_WP, G18 SDCARD_CLK, G19 SDCARD_CMD, H16 SDCARD_PWR_EN, H17 SDCARD_D1, H18 SDCARD_D0
part H pins: A6 I2C_PM_CLK (io), A7 CHARGING# (in), A12 JTAG_TMS (in), A13 JTAG_TDO (out), A14 JTAG_RTCK (out), A46 RESET_OUT# (io), A47 RESET_IN# (io), A48 CARRIER_PWR_ON (out), A49 CHARGER_PRSNT# (in), A50 VDD_RTC (power), B6 I2C_PM_DAT (io), B7 CARRIER_STBY# (out), B8 VIN_PWR_BAD# (in), B11 JTAG_TCK (in), B12 JTAG_TDI (in), B13 JTAG_GP0 (in), B17 FAN_TACH (in), B50 POWER_BTN# (in), C7 BATLOW# (in), C16 FAN_PWM (out), E1 FORCE_RECOV# (in), E2 SLEEP# (in)
part I pins: A8 GPIO14/AP_WAKE_MDM (io), A9 GPIO15/AP2MDM_READY (io), A10 GPIO16/MDM_WAKE_AP (io), A22 GPIO_EXP1_INT (io), A23 GPIO_EXP0_INT (io), B9 GPIO17/MDM2AP_READY (io), B10 GPIO18/MDM_COLDBOOT (io), B19 GPIO11/AP_WAKE_BT (io), B20 GPIO10/WIFI_WAKE_AP (io), B21 GPIO12/BT_EN (io), B22 GPIO13/BT_WAKE_AP (io), G14 GPIO9/MOTION_INT (io), H13 GPIO8/ALS_PROX_INT (io)
part J pins: A33 DP1_HPD (in), A34 DP1_AUX_CH- (io), A35 DP1_AUX_CH+ (io), B33 HDMI_CEC (io), B34 DP0_AUX_CH- (io), B35 DP0_AUX_CH+ (io), B36 DP0_HPD (in), C37 DP1_TX1- (out), C38 DP1_TX1+ (out), D36 DP1_TX2- (out), D37 DP1_TX2+ (out), E35 DP1_TX3- (out), E36 DP1_TX3+ (out), E38 DP1_TX0- (out), E39 DP1_TX0+ (out), F37 DP0_TX1- (out), F38 DP0_TX1+ (out), G36 DP0_TX2- (out), G37 DP0_TX2+ (out), H35 DP0_TX3- (out), H36 DP0_TX3+ (out), H38 DP0_TX0- (out), H39 DP0_TX0+ (out)
part K pins: A17 USB0_EN_OC# (io), A18 USB1_EN_OC# (io), A36 USB0_OTG_ID (in), A38 USB1_D+ (io), A39 USB1_D- (io), B37 USB0_VBUS_DET (in), B39 USB0_D+ (io), B40 USB0_D- (io), B42 USB2_D+ (io), B43 USB2_D- (io)
part A text: AUDIO
part B text: SERIAL
part C text: DSI; TOUCH SIDEBAND; DISPLAY SIDEBAND
part D text: CSI; CAM SIDEBAND
part E text: PCIe x4
part F text: SATA
part G text: SD CARD
part H text: SYSTEM; JTAG
part I text: GPIO
part J text: eDP; HDMI
part K text: USB 2.0


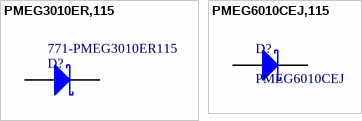
[diagram p12: symbols PMEG3010ER,115 to PMEG6010CEJ,115]

## PMEG3010ER,115
designator D?  Supplier Part Number 1: 771-PMEG3010ER115  (hidden comment: *)
Schottky Diodes & Rectifiers SCHOTTKY DIODE; Manufacturer: NXP Semiconductors; Manufacturer Part Number: PMEG3010ER,115; Configuration: Single; If - Forward Current: 1 A; Ifsm - Forward Surge Current: 50 A; Ir - Reverse Current: 1500 uA; Pd - Power Dissipation: 570 mW; Vf - Forward Voltage: 320 mV; Vrrm - Repetitive Reverse Voltage: 30 V; Supplier 1: Mouser; RoHS: RoHS Compliant; Category: Schottky Diodes & Rectifiers; Stock 1: 26531; Pricing 1: 1=0.380, 10=0.288, 100=0.161, 1000=0.117, 3000=0.100, 9000=0.094, 24000=0.086, 45000=0.083 (EUR); Length: 2.8 mm; Package / Case: SOD-123; Packaging: Reel; Product: Schottky Rectifiers; Technology: Si; Termination Style: SMD/SMT; Type: Schottky Diode; Width: 1.9 mm; Brand: NXP Semiconductors; Mounting Style: SMD/SMT; Maximum Operating Temperature: + 150 C; Minimum Operating Temperature: - 55 C; Standard Pack Qty: 3000; RoHS - Mouser: Y; Minimum Order Quantity: 1; Reeling: True; ComponentLink1URL: http://www.mouser.com/ds/2/302/PMEG3010ER-842338.pdf; ComponentLink1Description: http://www.mouser.com/ds/2/302/PMEG3010ER-842338.pdf
footprint SOD123W_L (SODFL, 2-Leads, Body 1.70x3.50mm, IPC Low Density)
footprint SOD123W_M (SODFL, 2-Leads, Body 1.70x3.50mm, IPC Medium Density)
footprint SOD123W_H (SODFL, 2-Leads, Body 1.70x3.50mm, IPC High Density)
pins: 1 K, 2 A

## PMEG6010CEJ,115
designator D?, comment PMEG6010CEJ
DIODE SCHOTTKY 60V 1A SOD323F; Manufacturer: NXP USA Inc.; Manufacturer Part Number: PMEG6010CEJ,115; Current - Average Rectified (Io): 1A (DC); Voltage - Forward (Vf) (Max) @ If: 660mV @ 1A; Speed: Fast Recovery =< 500ns, > 200mA (Io); Current - Reverse Leakage @ Vr: 50µA @ 60V; Capacitance @ Vr, F: 68pF @ 1V, 1MHz; Supplier 1: Digi-Key; Supplier Part Number 1: 568-4138-1-ND; RoHS: RoHS Compliant; Category: Discrete Semiconductor Products; Stock 1: 17553; Pricing 1: 1=0.38, 10=0.308, 100=0.2102, 500=0.15734, 1000=0.11785 (USD); Packaging: Cut Tape (CT); Part Status: Active; Diode Type: Schottky; Voltage - DC Reverse (Vr) (Max): 60V; Reverse Recovery Time (trr): -; Mounting Type: Surface Mount; Package / Case: SC-90, SOD-323F; Supplier Device Package: SOD-323F; Operating Temperature - Junction: 150°C (Max); ComponentLink1URL: http://www.nxp.com/documents/data_sheet/PMEG6010CEH_PMEG6010CEJ.pdf; ComponentLink1Description: http://www.nxp.com/documents/data_sheet/PMEG6010CEH_PMEG6010CEJ.pdf
footprint SOD323M (SODFL, 2-Leads, Body 1,25x2,50mm, IPC Low Density)
footprint SOD323N (SODFL, 2-Leads, Body 1,25x2,50mm, IPC Medium Density)
footprint SOD323L (SODFL, 2-Leads, Body 1,25x2,50mm, IPC High Density)
pins: 1 K, 2 A


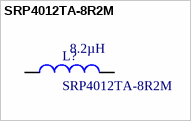
[diagram p13: symbol SRP4012TA-8R2M]

## SRP4012TA-8R2M
designator L?  Inductance: 8.2µH
FIXED IND 8.2UH 1.4A 376 MOHM; Manufacturer: Bourns Inc.; Type: Wirewound; Material - Core: Carbonyl Powder; Tolerance: ±20%; Current - Saturation: 1.6A; Shielding: Shielded; DC Resistance (DCR): 376 mOhm Max; Q @ Freq: 10 @ 100kHz; Frequency - Self Resonant: 25MHz; Frequency - Test: 100kHz; Supplier 1: Digi-Key; Supplier Part Number 1: SRP4012TA-8R2MCT-ND; Manufacturer Part Number: SRP4012TA-8R2M; RoHS: RoHS Compliant; Category: Inductors, Coils, Chokes; Stock 1: 1984; Pricing 1: 1=1.18, 10=1.11, 25=1.036, 50=0.888, 100=0.8436, 250=0.7696, 500=0.6808, 1000=0.6216 (USD); Packaging: Cut Tape (CT); Part Status: Active; Current Rating: 1.4A; Ratings: AEC-Q200; Operating Temperature: -40°C ~ 150°C; Mounting Type: Surface Mount; Package / Case: 2-SMD; Size / Dimension: 0.175" L x 0.160" W (4.45mm x 4.06mm); Height - Seated (Max): 0.047" (1.20mm); ComponentLink1URL: http://www.bourns.com/docs/Product-Datasheets/SRP4012TA.pdf; ComponentLink1Description: http://www.bourns.com/docs/Product-Datasheets/SRP4012TA.pdf
footprint INDP4541X12M (Precision Wire Wound Inductor, 2-Leads, Body 4,45x4,06mm, IPC Low Density)
footprint INDP4541X12N (Precision Wire Wound Inductor, 2-Leads, Body 4,45x4,06mm, IPC Medium Density)
footprint INDP4541X12L (Precision Wire Wound Inductor, 2-Leads, Body 4,45x4,06mm, IPC High Density)
pins: 1, 2


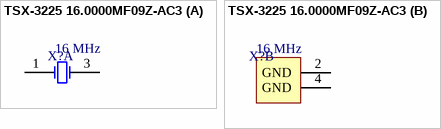
[diagram p14: symbol TSX-3225 16.0000MF09Z-AC3]

## TSX-3225 16.0000MF09Z-AC3
designator X?, comment Frequency: 16 MHz  (hidden comment: CRYS 16MHz 9pF)
Crystals 16MHz 10ppm 9pF -20C +75C; Manufacturer: Epson Timing; Manufacturer Part Number: TSX-3225 16.0000MF09Z-AC3; ESR: 60 Ohms; Supplier 1: Mouser; RoHS: RoHS Compliant; Category: Crystals; Stock 1: 36861; Pricing 1: 1=0.466, 10=0.350, 100=0.311, 250=0.295, 500=0.273, 1000=0.249, 2000=0.233, 5000=0.225, 10000=0.218 (EUR); Frequency Stability: 10 PPM; Height: 0.6 mm; Length: 3.2 mm; Load Capacitance: 9 pF; Operating Temperature Range: - 20 C to + 75 C; Package / Case: 1210 (3225 metric); Packaging: Reel; Series: FA-238V/FA-238/TSX-3225; Termination Style: SMD/SMT; Tolerance: 10 PPM; Type: MHz Range Crystal Unit; Width: 2.5 mm; Brand: Epson Timing; Mounting Style: SMD/SMT; Standard Pack Qty: 1000; RoHS - Mouser: Y; Minimum Order Quantity: 1; Reeling: True; ComponentLink1URL: http://www.mouser.com/ds/2/137/1721499-465440.pdf; ComponentLink1Description: http://www.mouser.com/ds/2/137/1721499-465440.pdf; Supplier Part Number 1: 732-TX325-16F09Z-AC3
footprint TSX-3225 16.0000MF09Z-AC3
part A pins: 1 X1, 3 X2
part B pins: 2 GND (power), 4 GND (power)